# Altium integrated library Renesas Microcontroller 720.IntLib: 63 symbols (part 3 of 3)
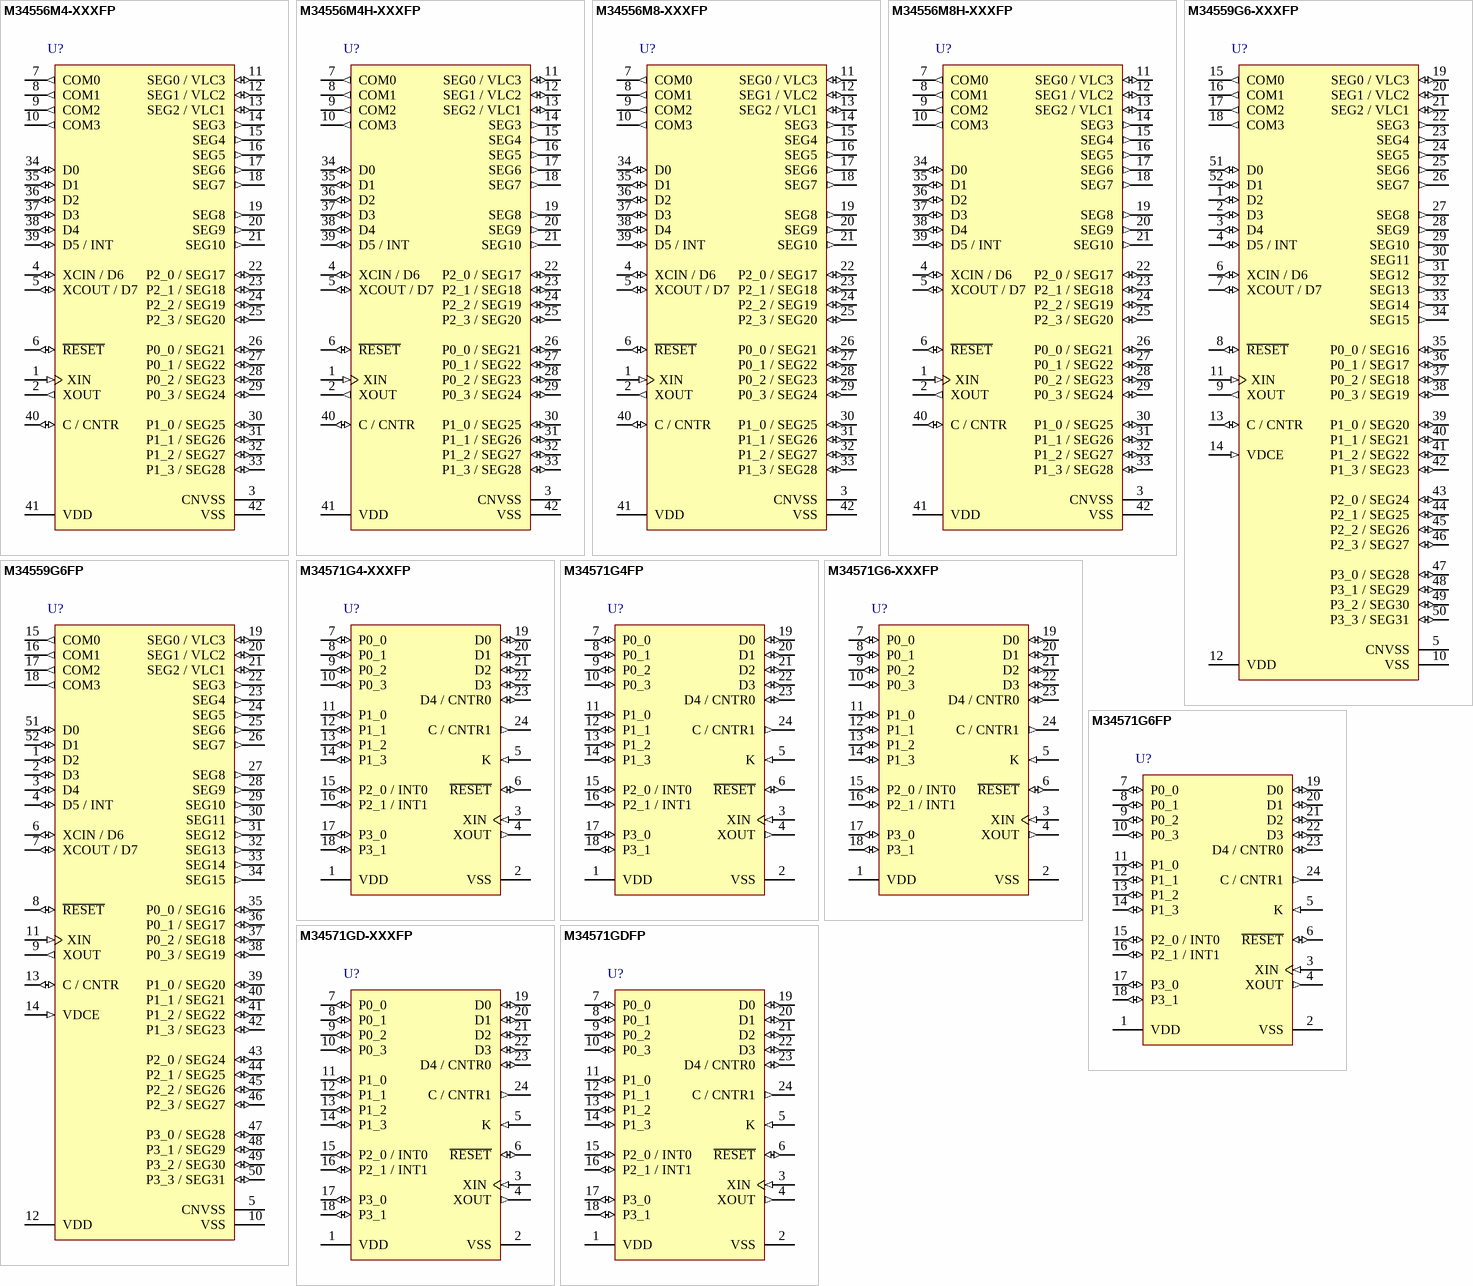
[diagram p6: symbols M34556M4-XXXFP to M34571GDFP]

## M34556M8H-XXXFP
designator U?
Mask ROM 4-BIT CMOS Microcomputer, 4500/720 Series CPU, 4556 Group, 8192 x 10 bit ROM, 288 x 4 bit RAM, 124 basic instructions, 42P2R-A Pkg; Published: 28-Aug-2009; DatasheetVersion: Rev.3.02, Dec-2006; PackageVersion: Oct-2006; PackageReference: PRSP0042GC-A; Publisher: Altium Limited; PackageDescription: 42-Pin Plastic Shrink SOP, 17.5 x 8.4 mm Body, 0.8 mm Pitch; Code_JEITA: P-SSOP42-8.4x17.5-0.80; ComponentLink1Description: Manufacturer Link; ComponentLink1URL: http://sg.renesas.com/fmwk.jsp?cnt=720_family_landing.jsp&fp=/products/mpumcu/720_family/; ComponentLink2Description: Datasheet; ComponentLink2URL: http://documentation.renesas.com/eng/products/mpumcu/rej03b0025_4556ds.pdf; ComponentLink3Description: Packaging Specification; ComponentLink3URL: http://sg.renesas.com/media/products/common_info/package/pdf/ic/code/prsp0042gc_a.pdf
footprint PRSP0042GC-A_N (SOP, 42-Leads, Body 17.5x8.4mm, Pitch 0.8mm, IPC Medium Density)
footprint PRSP0042GC-A_L (SOP, 42-Leads, Body 17.5x8.4mm, Pitch 0.8mm, IPC High Density)
footprint PRSP0042GC-A_M (SOP, 42-Leads, Body 17.5x8.4mm, Pitch 0.8mm, IPC Low Density)
pins: 1 XIN (in), 2 XOUT (out), 3 CNVSS (power), 4 XCIN / D6 (io), 5 XCOUT / D7 (io), 6 ~{RESET} (io), 7 COM0 (out), 8 COM1 (out), 9 COM2 (out), 10 COM3 (out), 11 SEG0 / VLC3 (io), 12 SEG1 / VLC2 (io), 13 SEG2 / VLC1 (io), 14 SEG3 (out), 15 SEG4 (out), 16 SEG5 (out), 17 SEG6 (out), 18 SEG7 (out), 19 SEG8 (out), 20 SEG9 (out), 21 SEG10 (out), 22 P2_0 / SEG17 (io), 23 P2_1 / SEG18 (io), 24 P2_2 / SEG19 (io), 25 P2_3 / SEG20 (io), 26 P0_0 / SEG21 (io), 27 P0_1 / SEG22 (io), 28 P0_2 / SEG23 (io), 29 P0_3 / SEG24 (io), 30 P1_0 / SEG25 (io), 31 P1_1 / SEG26 (io), 32 P1_2 / SEG27 (io), 33 P1_3 / SEG28 (io), 34 D0 (io), 35 D1 (io), 36 D2 (io), 37 D3 (io), 38 D4 (io), 39 D5 / INT (io), 40 C / CNTR (io), 41 VDD (power), 42 VSS (power)

## M34559G6-XXXFP
designator U?
QzROM 4-BIT CMOS Microcomputer, 4500/720 Series CPU, 4559 Group, 6144 x 10 bit ROM, 288 x 4 bit RAM, 52P6A-A Pkg; Published: 28-Aug-2009; DatasheetVersion: Rev.1.04, Aug-2007; PackageVersion: Nov-2007; PackageReference: PLQP0052JA-A; Publisher: Altium Limited; PackageDescription: 52-Pin Plastic Low Profile QFP, 10 x 10 x 1.4 mm Body, 0.65 mm Pitch; Code_JEITA: P-LQFP52-10x10-0.65; ComponentLink1Description: Manufacturer Link; ComponentLink1URL: http://sg.renesas.com/fmwk.jsp?cnt=720_family_landing.jsp&fp=/products/mpumcu/720_family/; ComponentLink2Description: Datasheet; ComponentLink2URL: http://documentation.renesas.com/eng/products/mpumcu/rej03b0188_4559ds.pdf; ComponentLink3Description: Packaging Specification; ComponentLink3URL: http://sg.renesas.com/media/products/common_info/package/pdf/ic/code/plqp0052ja_a.pdf
footprint PLQP0052JA-A_N (QFP, 52-Leads, Body 10x10mm, Pitch 0.65mm, IPC Medium Density)
footprint PLQP0052JA-A_L (QFP, 52-Leads, Body 10x10mm, Pitch 0.65mm, IPC High Density)
footprint PLQP0052JA-A_M (QFP, 52-Leads, Body 10x10mm, Pitch 0.65mm, IPC Low Density)
pins: 1 D2 (io), 2 D3 (io), 3 D4 (io), 4 D5 / INT (io), 5 CNVSS (power), 6 XCIN / D6 (io), 7 XCOUT / D7 (io), 8 ~{RESET} (io), 9 XOUT (out), 10 VSS (power), 11 XIN (in), 12 VDD (power), 13 C / CNTR (io), 14 VDCE (in), 15 COM0 (out), 16 COM1 (out), 17 COM2 (out), 18 COM3 (out), 19 SEG0 / VLC3 (io), 20 SEG1 / VLC2 (io), 21 SEG2 / VLC1 (io), 22 SEG3 (out), 23 SEG4 (out), 24 SEG5 (out), 25 SEG6 (out), 26 SEG7 (out), 27 SEG8 (out), 28 SEG9 (out), 29 SEG10 (out), 30 SEG11 (out), 31 SEG12 (out), 32 SEG13 (out), 33 SEG14 (out), 34 SEG15 (out), 35 P0_0 / SEG16 (io), 36 P0_1 / SEG17 (io), 37 P0_2 / SEG18 (io), 38 P0_3 / SEG19 (io), 39 P1_0 / SEG20 (io), 40 P1_1 / SEG21 (io), 41 P1_2 / SEG22 (io), 42 P1_3 / SEG23 (io), 43 P2_0 / SEG24 (io), 44 P2_1 / SEG25 (io), 45 P2_2 / SEG26 (io), 46 P2_3 / SEG27 (io), 47 P3_0 / SEG28 (io), 48 P3_1 / SEG29 (io), 49 P3_2 / SEG30 (io), 50 P3_3 / SEG31 (io), 51 D0 (io), 52 D1 (io)

## M34559G6FP
designator U?
QzROM 4-BIT CMOS Microcomputer, 4500/720 Series CPU, 4559 Group, 6144 x 10 bit ROM, 288 x 4 bit RAM, 52P6A-A Pkg, shipped in blank; Published: 28-Aug-2009; DatasheetVersion: Rev.1.04, Aug-2007; PackageVersion: Nov-2007; PackageReference: PLQP0052JA-A; Publisher: Altium Limited; PackageDescription: 52-Pin Plastic Low Profile QFP, 10 x 10 x 1.4 mm Body, 0.65 mm Pitch; Code_JEITA: P-LQFP52-10x10-0.65; ComponentLink1Description: Manufacturer Link; ComponentLink1URL: http://sg.renesas.com/fmwk.jsp?cnt=720_family_landing.jsp&fp=/products/mpumcu/720_family/; ComponentLink2Description: Datasheet; ComponentLink2URL: http://documentation.renesas.com/eng/products/mpumcu/rej03b0188_4559ds.pdf; ComponentLink3Description: Packaging Specification; ComponentLink3URL: http://sg.renesas.com/media/products/common_info/package/pdf/ic/code/plqp0052ja_a.pdf
footprint PLQP0052JA-A_N (QFP, 52-Leads, Body 10x10mm, Pitch 0.65mm, IPC Medium Density)
footprint PLQP0052JA-A_L (QFP, 52-Leads, Body 10x10mm, Pitch 0.65mm, IPC High Density)
footprint PLQP0052JA-A_M (QFP, 52-Leads, Body 10x10mm, Pitch 0.65mm, IPC Low Density)
pins: 1 D2 (io), 2 D3 (io), 3 D4 (io), 4 D5 / INT (io), 5 CNVSS (power), 6 XCIN / D6 (io), 7 XCOUT / D7 (io), 8 ~{RESET} (io), 9 XOUT (out), 10 VSS (power), 11 XIN (in), 12 VDD (power), 13 C / CNTR (io), 14 VDCE (in), 15 COM0 (out), 16 COM1 (out), 17 COM2 (out), 18 COM3 (out), 19 SEG0 / VLC3 (io), 20 SEG1 / VLC2 (io), 21 SEG2 / VLC1 (io), 22 SEG3 (out), 23 SEG4 (out), 24 SEG5 (out), 25 SEG6 (out), 26 SEG7 (out), 27 SEG8 (out), 28 SEG9 (out), 29 SEG10 (out), 30 SEG11 (out), 31 SEG12 (out), 32 SEG13 (out), 33 SEG14 (out), 34 SEG15 (out), 35 P0_0 / SEG16 (io), 36 P0_1 / SEG17 (io), 37 P0_2 / SEG18 (io), 38 P0_3 / SEG19 (io), 39 P1_0 / SEG20 (io), 40 P1_1 / SEG21 (io), 41 P1_2 / SEG22 (io), 42 P1_3 / SEG23 (io), 43 P2_0 / SEG24 (io), 44 P2_1 / SEG25 (io), 45 P2_2 / SEG26 (io), 46 P2_3 / SEG27 (io), 47 P3_0 / SEG28 (io), 48 P3_1 / SEG29 (io), 49 P3_2 / SEG30 (io), 50 P3_3 / SEG31 (io), 51 D0 (io), 52 D1 (io)

## M34571G4-XXXFP
designator U?
QzROM 4-BIT CMOS Microcomputer, 4500/720 Series CPU, 4571 Group, 4096 x 10 bit ROM, 128 x 4 bit RAM, 24P2Q-A Pkg; Published: 28-Aug-2009; DatasheetVersion: Rev.1.02, May-2007; PackageVersion: Sep-2005; PackageReference: PRSP0024GA-A; Publisher: Altium Limited; PackageDescription: 24-Pin Plastic Shrink SOP, 10.1 x 5.3 x 1.8 mm Body, 0.8 mm Pitch; Code_JEITA: P-SSOP24-5.3x10.1-0.80; ComponentLink1Description: Manufacturer Link; ComponentLink1URL: http://sg.renesas.com/fmwk.jsp?cnt=720_family_landing.jsp&fp=/products/mpumcu/720_family/; ComponentLink2Description: Datasheet; ComponentLink2URL: http://documentation.renesas.com/eng/products/mpumcu/rej03b0179_4571ds.pdf; ComponentLink3Description: Packaging Specification; ComponentLink3URL: http://sg.renesas.com/media/products/common_info/package/pdf/ic/code/prsp0024ga_a.pdf
footprint PRSP0024GA-A_N (SOP, 24-Leads, Body 10.1x5.3mm, Pitch 0.8mm, IPC Medium Density)
footprint PRSP0024GA-A_L (SOP, 24-Leads, Body 10.1x5.3mm, Pitch 0.8mm, IPC High Density)
footprint PRSP0024GA-A_M (SOP, 24-Leads, Body 10.1x5.3mm, Pitch 0.8mm, IPC Low Density)
pins: 1 VDD (power), 2 VSS (power), 3 XIN (in), 4 XOUT (out), 5 K (in), 6 ~{RESET} (io), 7 P0_0 (io), 8 P0_1 (io), 9 P0_2 (io), 10 P0_3 (io), 11 P1_0 (io), 12 P1_1 (io), 13 P1_2 (io), 14 P1_3 (io), 15 P2_0 / INT0 (io), 16 P2_1 / INT1 (io), 17 P3_0 (io), 18 P3_1 (io), 19 D0 (io), 20 D1 (io), 21 D2 (io), 22 D3 (io), 23 D4 / CNTR0 (io), 24 C / CNTR1 (out)

## M34571G4FP
designator U?
QzROM 4-BIT CMOS Microcomputer, 4500/720 Series CPU, 4571 Group, 4096 x 10 bit ROM, 128 x 4 bit RAM, 24P2Q-A Pkg, shipped in blank; Published: 28-Aug-2009; DatasheetVersion: Rev.1.02, May-2007; PackageVersion: Sep-2005; PackageReference: PRSP0024GA-A; Publisher: Altium Limited; PackageDescription: 24-Pin Plastic Shrink SOP, 10.1 x 5.3 x 1.8 mm Body, 0.8 mm Pitch; Code_JEITA: P-SSOP24-5.3x10.1-0.80; ComponentLink1Description: Manufacturer Link; ComponentLink1URL: http://sg.renesas.com/fmwk.jsp?cnt=720_family_landing.jsp&fp=/products/mpumcu/720_family/; ComponentLink2Description: Datasheet; ComponentLink2URL: http://documentation.renesas.com/eng/products/mpumcu/rej03b0179_4571ds.pdf; ComponentLink3Description: Packaging Specification; ComponentLink3URL: http://sg.renesas.com/media/products/common_info/package/pdf/ic/code/prsp0024ga_a.pdf
footprint PRSP0024GA-A_N (SOP, 24-Leads, Body 10.1x5.3mm, Pitch 0.8mm, IPC Medium Density)
footprint PRSP0024GA-A_L (SOP, 24-Leads, Body 10.1x5.3mm, Pitch 0.8mm, IPC High Density)
footprint PRSP0024GA-A_M (SOP, 24-Leads, Body 10.1x5.3mm, Pitch 0.8mm, IPC Low Density)
pins: 1 VDD (power), 2 VSS (power), 3 XIN (in), 4 XOUT (out), 5 K (in), 6 ~{RESET} (io), 7 P0_0 (io), 8 P0_1 (io), 9 P0_2 (io), 10 P0_3 (io), 11 P1_0 (io), 12 P1_1 (io), 13 P1_2 (io), 14 P1_3 (io), 15 P2_0 / INT0 (io), 16 P2_1 / INT1 (io), 17 P3_0 (io), 18 P3_1 (io), 19 D0 (io), 20 D1 (io), 21 D2 (io), 22 D3 (io), 23 D4 / CNTR0 (io), 24 C / CNTR1 (out)

## M34571G6-XXXFP
designator U?
QzROM 4-BIT CMOS Microcomputer, 4500/720 Series CPU, 4571 Group, 6144 x 10 bit ROM, 128 x 4 bit RAM, 24P2Q-A Pkg; Published: 28-Aug-2009; DatasheetVersion: Rev.1.02, May-2007; PackageVersion: Sep-2005; PackageReference: PRSP0024GA-A; Publisher: Altium Limited; PackageDescription: 24-Pin Plastic Shrink SOP, 10.1 x 5.3 x 1.8 mm Body, 0.8 mm Pitch; Code_JEITA: P-SSOP24-5.3x10.1-0.80; ComponentLink1Description: Manufacturer Link; ComponentLink1URL: http://sg.renesas.com/fmwk.jsp?cnt=720_family_landing.jsp&fp=/products/mpumcu/720_family/; ComponentLink2Description: Datasheet; ComponentLink2URL: http://documentation.renesas.com/eng/products/mpumcu/rej03b0179_4571ds.pdf; ComponentLink3Description: Packaging Specification; ComponentLink3URL: http://sg.renesas.com/media/products/common_info/package/pdf/ic/code/prsp0024ga_a.pdf
footprint PRSP0024GA-A_N (SOP, 24-Leads, Body 10.1x5.3mm, Pitch 0.8mm, IPC Medium Density)
footprint PRSP0024GA-A_L (SOP, 24-Leads, Body 10.1x5.3mm, Pitch 0.8mm, IPC High Density)
footprint PRSP0024GA-A_M (SOP, 24-Leads, Body 10.1x5.3mm, Pitch 0.8mm, IPC Low Density)
pins: 1 VDD (power), 2 VSS (power), 3 XIN (in), 4 XOUT (out), 5 K (in), 6 ~{RESET} (io), 7 P0_0 (io), 8 P0_1 (io), 9 P0_2 (io), 10 P0_3 (io), 11 P1_0 (io), 12 P1_1 (io), 13 P1_2 (io), 14 P1_3 (io), 15 P2_0 / INT0 (io), 16 P2_1 / INT1 (io), 17 P3_0 (io), 18 P3_1 (io), 19 D0 (io), 20 D1 (io), 21 D2 (io), 22 D3 (io), 23 D4 / CNTR0 (io), 24 C / CNTR1 (out)

## M34571G6FP
designator U?
QzROM 4-BIT CMOS Microcomputer, 4500/720 Series CPU, 4571 Group, 6144 x 10 bit ROM, 128 x 4 bit RAM, 24P2Q-A Pkg, shipped in blank; Published: 28-Aug-2009; DatasheetVersion: Rev.1.02, May-2007; PackageVersion: Sep-2005; PackageReference: PRSP0024GA-A; Publisher: Altium Limited; PackageDescription: 24-Pin Plastic Shrink SOP, 10.1 x 5.3 x 1.8 mm Body, 0.8 mm Pitch; Code_JEITA: P-SSOP24-5.3x10.1-0.80; ComponentLink1Description: Manufacturer Link; ComponentLink1URL: http://sg.renesas.com/fmwk.jsp?cnt=720_family_landing.jsp&fp=/products/mpumcu/720_family/; ComponentLink2Description: Datasheet; ComponentLink2URL: http://documentation.renesas.com/eng/products/mpumcu/rej03b0179_4571ds.pdf; ComponentLink3Description: Packaging Specification; ComponentLink3URL: http://sg.renesas.com/media/products/common_info/package/pdf/ic/code/prsp0024ga_a.pdf
footprint PRSP0024GA-A_N (SOP, 24-Leads, Body 10.1x5.3mm, Pitch 0.8mm, IPC Medium Density)
footprint PRSP0024GA-A_L (SOP, 24-Leads, Body 10.1x5.3mm, Pitch 0.8mm, IPC High Density)
footprint PRSP0024GA-A_M (SOP, 24-Leads, Body 10.1x5.3mm, Pitch 0.8mm, IPC Low Density)
pins: 1 VDD (power), 2 VSS (power), 3 XIN (in), 4 XOUT (out), 5 K (in), 6 ~{RESET} (io), 7 P0_0 (io), 8 P0_1 (io), 9 P0_2 (io), 10 P0_3 (io), 11 P1_0 (io), 12 P1_1 (io), 13 P1_2 (io), 14 P1_3 (io), 15 P2_0 / INT0 (io), 16 P2_1 / INT1 (io), 17 P3_0 (io), 18 P3_1 (io), 19 D0 (io), 20 D1 (io), 21 D2 (io), 22 D3 (io), 23 D4 / CNTR0 (io), 24 C / CNTR1 (out)

## M34571GD-XXXFP
designator U?
QzROM 4-BIT CMOS Microcomputer, 4500/720 Series CPU, 4571 Group, 16384 x 10 bit ROM, 128 x 4 bit RAM, 24P2Q-A Pkg; Published: 28-Aug-2009; DatasheetVersion: Rev.1.02, May-2007; PackageVersion: Sep-2005; PackageReference: PRSP0024GA-A; Publisher: Altium Limited; PackageDescription: 24-Pin Plastic Shrink SOP, 10.1 x 5.3 x 1.8 mm Body, 0.8 mm Pitch; Code_JEITA: P-SSOP24-5.3x10.1-0.80; ComponentLink1Description: Manufacturer Link; ComponentLink1URL: http://sg.renesas.com/fmwk.jsp?cnt=720_family_landing.jsp&fp=/products/mpumcu/720_family/; ComponentLink2Description: Datasheet; ComponentLink2URL: http://documentation.renesas.com/eng/products/mpumcu/rej03b0179_4571ds.pdf; ComponentLink3Description: Packaging Specification; ComponentLink3URL: http://sg.renesas.com/media/products/common_info/package/pdf/ic/code/prsp0024ga_a.pdf
footprint PRSP0024GA-A_N (SOP, 24-Leads, Body 10.1x5.3mm, Pitch 0.8mm, IPC Medium Density)
footprint PRSP0024GA-A_L (SOP, 24-Leads, Body 10.1x5.3mm, Pitch 0.8mm, IPC High Density)
footprint PRSP0024GA-A_M (SOP, 24-Leads, Body 10.1x5.3mm, Pitch 0.8mm, IPC Low Density)
pins: 1 VDD (power), 2 VSS (power), 3 XIN (in), 4 XOUT (out), 5 K (in), 6 ~{RESET} (io), 7 P0_0 (io), 8 P0_1 (io), 9 P0_2 (io), 10 P0_3 (io), 11 P1_0 (io), 12 P1_1 (io), 13 P1_2 (io), 14 P1_3 (io), 15 P2_0 / INT0 (io), 16 P2_1 / INT1 (io), 17 P3_0 (io), 18 P3_1 (io), 19 D0 (io), 20 D1 (io), 21 D2 (io), 22 D3 (io), 23 D4 / CNTR0 (io), 24 C / CNTR1 (out)

## M34571GDFP
designator U?
QzROM 4-BIT CMOS Microcomputer, 4500/720 Series CPU, 4571 Group, 16384 x 10 bit ROM, 128 x 4 bit RAM, 24P2Q-A Pkg, shipped in blank; Published: 28-Aug-2009; DatasheetVersion: Rev.1.02, May-2007; PackageVersion: Sep-2005; PackageReference: PRSP0024GA-A; Publisher: Altium Limited; PackageDescription: 24-Pin Plastic Shrink SOP, 10.1 x 5.3 x 1.8 mm Body, 0.8 mm Pitch; Code_JEITA: P-SSOP24-5.3x10.1-0.80; ComponentLink1Description: Manufacturer Link; ComponentLink1URL: http://sg.renesas.com/fmwk.jsp?cnt=720_family_landing.jsp&fp=/products/mpumcu/720_family/; ComponentLink2Description: Datasheet; ComponentLink2URL: http://documentation.renesas.com/eng/products/mpumcu/rej03b0179_4571ds.pdf; ComponentLink3Description: Packaging Specification; ComponentLink3URL: http://sg.renesas.com/media/products/common_info/package/pdf/ic/code/prsp0024ga_a.pdf
footprint PRSP0024GA-A_N (SOP, 24-Leads, Body 10.1x5.3mm, Pitch 0.8mm, IPC Medium Density)
footprint PRSP0024GA-A_L (SOP, 24-Leads, Body 10.1x5.3mm, Pitch 0.8mm, IPC High Density)
footprint PRSP0024GA-A_M (SOP, 24-Leads, Body 10.1x5.3mm, Pitch 0.8mm, IPC Low Density)
pins: 1 VDD (power), 2 VSS (power), 3 XIN (in), 4 XOUT (out), 5 K (in), 6 ~{RESET} (io), 7 P0_0 (io), 8 P0_1 (io), 9 P0_2 (io), 10 P0_3 (io), 11 P1_0 (io), 12 P1_1 (io), 13 P1_2 (io), 14 P1_3 (io), 15 P2_0 / INT0 (io), 16 P2_1 / INT1 (io), 17 P3_0 (io), 18 P3_1 (io), 19 D0 (io), 20 D1 (io), 21 D2 (io), 22 D3 (io), 23 D4 / CNTR0 (io), 24 C / CNTR1 (out)